# Altium footprint library CUI-DS05-127-SMT-Series.PcbLib: 1 footprints
Each footprint in its own frame and in the unit in brackets; x right, y up, seen from the top. Pads: shape width x height; smd on the part's side, far side on the other; paste and mask are expansions set on the pad; w line width, h text height; cw(c..) or ccw(c..) is an arc to the next point about the centre after c.
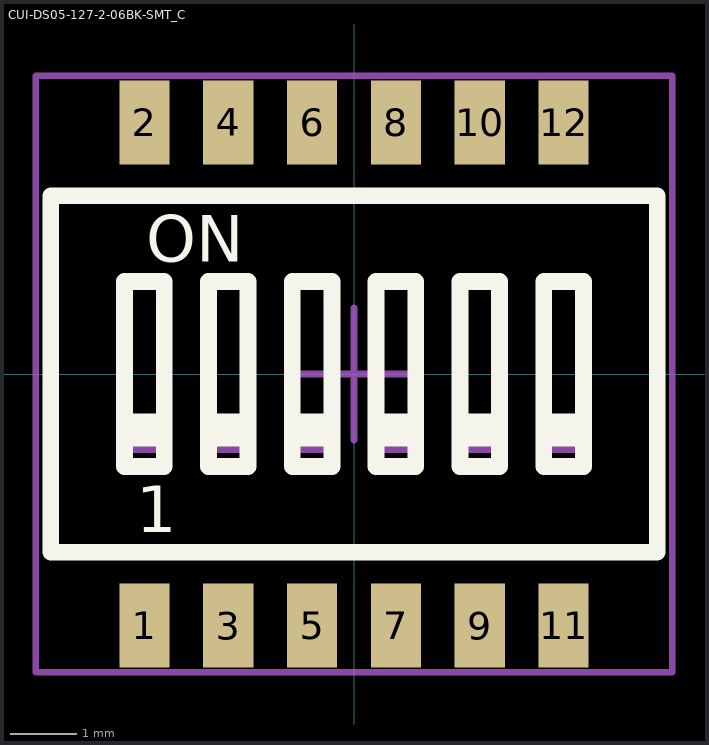
[diagram p0: the footprint, top view; thin cyan lines are the x and y axes]

## CUI-DS05-127-2-06BK-SMT_C [mm] "Dip Switch SPST 6 Position Surface Mount Slide (Standard) Actuator 25mA 24VDC"
height 2.4
pads (12):
  rect 0.76x1.27 smd: 1(-3.175,-3.81) 2(-3.175,3.81) 3(-1.905,-3.81) 4(-1.905,3.81) 5(-0.635,-3.81) 6(-0.635,3.81) 7(0.635,-3.81) 8(0.635,3.81) 9(1.905,-3.81) 10(1.905,3.81) 11(3.175,-3.81) 12(3.175,3.81)
Top Overlay:
  rectangle: -2.205,-1.1 -1.605,-0.6
  rectangle: -3.475,-1.1 -2.875,-0.6
  rectangle: 2.875,-1.1 3.475,-0.6
  rectangle: 1.605,-1.1 2.205,-0.6
  rectangle: 0.335,-1.1 0.935,-0.6
  rectangle: -0.935,-1.1 -0.335,-0.6
  lines w0.254: -4.595,-2.7 4.595,-2.7 4.595,2.7 -4.595,2.7 -4.595,-2.7 ; -3.475,-1.4 -3.475,1.4 -2.875,1.4 -2.875,-1.4 -3.475,-1.4 ; -2.205,-1.4 -1.605,-1.4 -1.605,1.4 -2.205,1.4 -2.205,-1.4 ; -0.935,-1.4 -0.935,1.4 -0.335,1.4 -0.335,-1.4 -0.935,-1.4 ; 0.335,-1.4 0.335,1.4 0.935,1.4 0.935,-1.4 0.335,-1.4 ; 1.605,-1.4 1.605,1.4 2.205,1.4 2.205,-1.4 1.605,-1.4 ; 2.875,-1.4 2.875,1.4 3.475,1.4 3.475,-1.4 2.875,-1.4
  text "ON" at -3.146,1.704 h0.7
  text "1" at -3.296,-2.396 h0.7
Top Assembly:
  rectangle: 2.875,-1.2 3.475,-0.7
  rectangle: 1.605,-1.2 2.205,-0.7
  rectangle: 0.335,-1.2 0.935,-0.7
  rectangle: -3.475,-1.2 -2.875,-0.7
  rectangle: -2.205,-1.2 -1.605,-0.7
  rectangle: -0.935,-1.2 -0.335,-0.7
  lines w0.2: -4.595,-2.7 -4.595,2.7 4.595,2.7 4.595,-2.7 -4.595,-2.7 ; -3.475,-1.4 -3.475,1.4 -2.875,1.4 -2.875,-1.4 -3.475,-1.4 ; -2.205,-1.4 -2.205,1.4 -1.605,1.4 -1.605,-1.4 -2.205,-1.4 ; -0.935,-1.4 -0.935,1.4 -0.335,1.4 -0.335,-1.4 -0.935,-1.4 ; 0.335,-1.4 0.335,1.4 0.935,1.4 0.935,-1.4 0.335,-1.4 ; 1.605,-1.4 1.605,1.4 2.205,1.4 2.205,-1.4 1.605,-1.4 ; 2.875,-1.4 2.875,1.4 3.475,1.4 3.475,-1.4 2.875,-1.4
  text "ON" at -3.2,1.7 h0.7
  text "1" at -3.3,-2.4 h0.7
Top Designator:
  text ".Designator" at -0.917,-0.359 h1
Top Courtyard (Mech15):
  lines w0.1: -1,0 1,0 ; 0,-1 0,1 ; -4.82,-4.52 4.82,-4.52 4.82,4.52 -4.82,4.52 -4.82,-4.52
3D body "CUI_DEVICES_DS05-127-2-06BK-SMT-TR.step": height 2.4, standoff 0, extent -4.595,-4.15 4.595,4.149